# EAGLE library part FET_DMN2990UDJ-7 (library parts_v26)
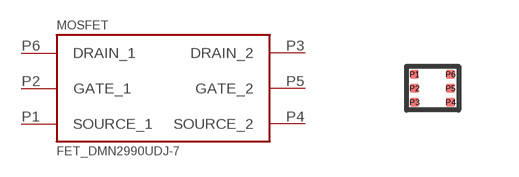
[diagram p3: symbol with the pads of DMN2990UDJ-7; footprint DMN2990UDJ-7]

Designator prefix MOSFET

## FET_DMN2990UDJ-7  [DMN2990UDJ-7]
P1  SOURCE_1  pas
P2  GATE_1  in
P3  DRAIN_2  pas
P4  SOURCE_2  pas
P5  GATE_2  in
P6  DRAIN_1  pas

## Footprint DMN2990UDJ-7 (pad centres in mm)
SOT-963
smd 0.2 x 0.2: P1 -0.45,0.35; P2 -0.45,0; P3 -0.45,-0.35; P4 0.45,-0.35; P5 0.45,0; P6 0.45,0.35